# EAGLE library part ITG-3200 (library zz-upenn)
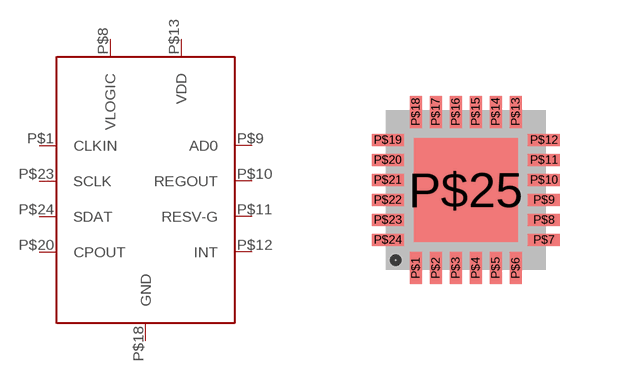
[diagram p17: symbol with the pads of QFN24; footprint QFN24]

Designator prefix -

## ITG-3200  [QFN24]
P$1  CLKIN
P$8  VLOGIC
P$9  AD0
P$10  REGOUT
P$11  RESV-G
P$12  INT
P$13  VDD
P$18  GND
P$20  CPOUT
P$23  SCLK
P$24  SDAT

## Footprint QFN24 (pad centres in mm)
smd 0.3 x 0.8: P$1 -1.25,-1.955; P$2 -0.75,-1.955; P$3 -0.25,-1.955; P$4 0.25,-1.955; P$5 0.75,-1.955; P$6 1.25,-1.955; P$13 1.25,1.955; P$14 0.75,1.955; P$15 0.25,1.955; P$16 -0.25,1.955; P$17 -0.75,1.955; P$18 -1.25,1.955
smd 0.8 x 0.3: P$7 1.955,-1.25; P$8 1.955,-0.75; P$9 1.955,-0.25; P$10 1.955,0.25; P$11 1.955,0.75; P$12 1.955,1.25; P$19 -1.955,1.25; P$20 -1.955,0.75; P$21 -1.955,0.25; P$22 -1.955,-0.25; P$23 -1.955,-0.75; P$24 -1.955,-1.25
smd 2.6 x 2.6: P$25 0,0